# Altium schematic symbol library Trenz.SchLib: 1 symbol
Pins are listed as number, name and electrical type; pins without a type are passive.

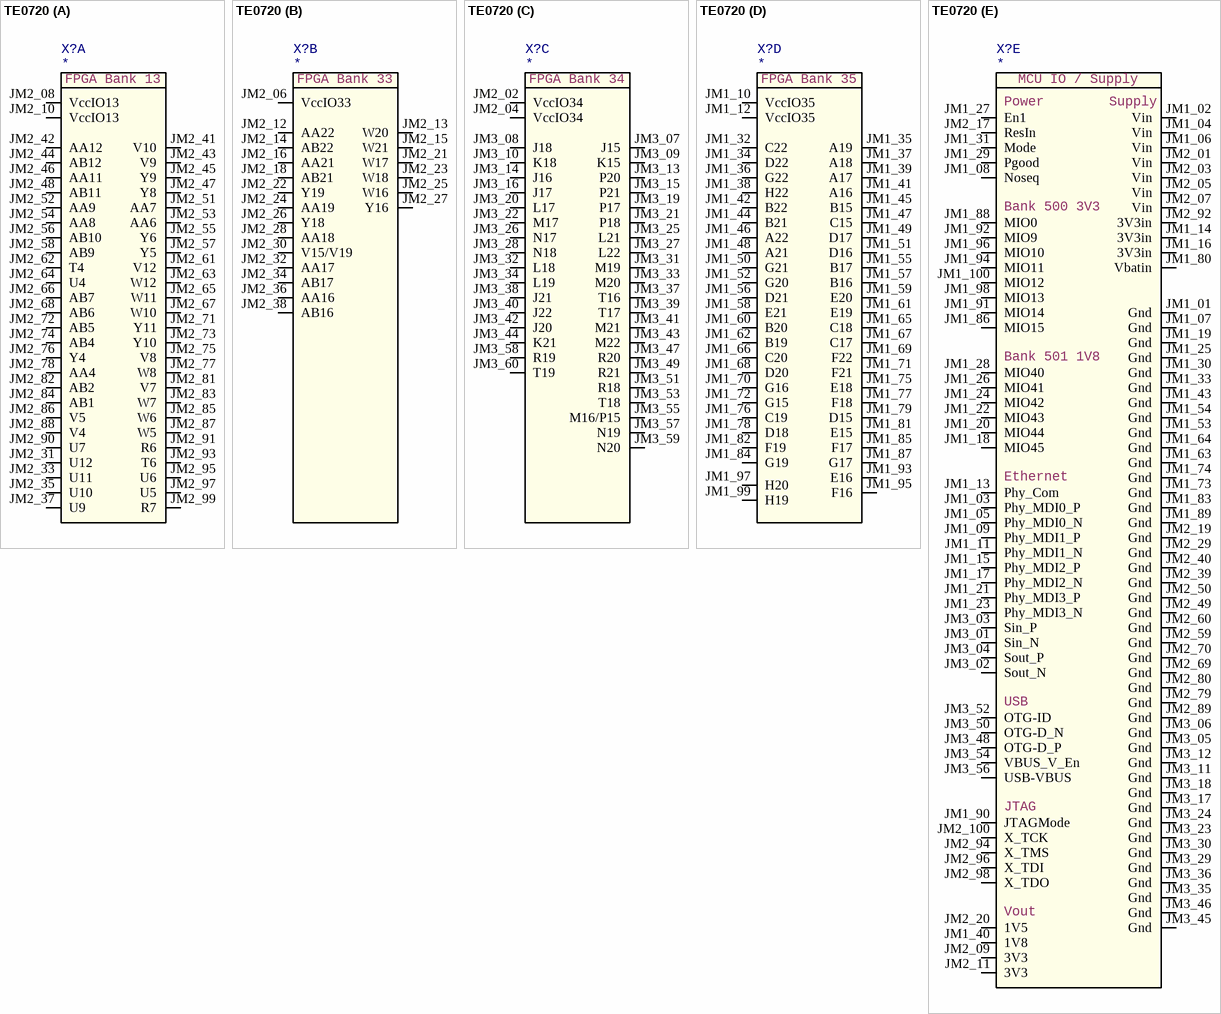
[diagram p0: symbol TE0720]

## TE0720
designator X?
Zynq 7000 SoM
part A pins: JM2_08 VccIO13, JM2_10 VccIO13, JM2_31 U12, JM2_33 U11, JM2_35 U10, JM2_37 U9, JM2_41 V10, JM2_42 AA12, JM2_43 V9, JM2_44 AB12, JM2_45 Y9, JM2_46 AA11, JM2_47 Y8, JM2_48 AB11, JM2_51 AA7, JM2_52 AA9, JM2_53 AA6, JM2_54 AA8, JM2_55 Y6, JM2_56 AB10, JM2_57 Y5, JM2_58 AB9, JM2_61 V12, JM2_62 T4, JM2_63 W12, JM2_64 U4, JM2_65 W11, JM2_66 AB7, JM2_67 W10, JM2_68 AB6, JM2_71 Y11, JM2_72 AB5, JM2_73 Y10, JM2_74 AB4, JM2_75 V8, JM2_76 Y4, JM2_77 W8, JM2_78 AA4, JM2_81 V7, JM2_82 AB2, JM2_83 W7, JM2_84 AB1, JM2_85 W6, JM2_86 V5, JM2_87 W5, JM2_88 V4, JM2_90 U7, JM2_91 R6, JM2_93 T6, JM2_95 U6, JM2_97 U5, JM2_99 R7
part B pins: JM2_06 VccIO33, JM2_12 AA22, JM2_13 W20, JM2_14 AB22, JM2_15 W21, JM2_16 AA21, JM2_18 AB21, JM2_21 W17, JM2_22 Y19, JM2_23 W18, JM2_24 AA19, JM2_25 W16, JM2_26 Y18, JM2_27 Y16, JM2_28 AA18, JM2_30 V15/V19, JM2_32 AA17, JM2_34 AB17, JM2_36 AA16, JM2_38 AB16
part C pins: JM2_02 VccIO34, JM2_04 VccIO34, JM3_07 J15, JM3_08 J18, JM3_09 K15, JM3_10 K18, JM3_13 P20, JM3_14 J16, JM3_15 P21, JM3_16 J17, JM3_19 P17, JM3_20 L17, JM3_21 P18, JM3_22 M17, JM3_25 L21, JM3_26 N17, JM3_27 L22, JM3_28 N18, JM3_31 M19, JM3_32 L18, JM3_33 M20, JM3_34 L19, JM3_37 T16, JM3_38 J21, JM3_39 T17, JM3_40 J22, JM3_41 M21, JM3_42 J20, JM3_43 M22, JM3_44 K21, JM3_47 R20, JM3_49 R21, JM3_51 R18, JM3_53 T18, JM3_55 M16/P15, JM3_57 N19, JM3_58 R19, JM3_59 N20, JM3_60 T19
part D pins: JM1_10 VccIO35, JM1_12 VccIO35, JM1_32 C22, JM1_34 D22, JM1_35 A19, JM1_36 G22, JM1_37 A18, JM1_38 H22, JM1_39 A17, JM1_41 A16, JM1_42 B22, JM1_44 B21, JM1_45 B15, JM1_46 A22, JM1_47 C15, JM1_48 A21, JM1_49 D17, JM1_50 G21, JM1_51 D16, JM1_52 G20, JM1_55 B17 (power), JM1_56 D21, JM1_57 B16, JM1_58 E21, JM1_59 E20, JM1_60 B20, JM1_61 E19, JM1_62 B19, JM1_65 C18, JM1_66 C20, JM1_67 C17, JM1_68 D20, JM1_69 F22, JM1_70 G16, JM1_71 F21, JM1_72 G15, JM1_75 E18, JM1_76 C19, JM1_77 F18, JM1_78 D18, JM1_79 D15, JM1_81 E15, JM1_82 F19, JM1_84 G19, JM1_85 F17, JM1_87 G17, JM1_93 E16, JM1_95 F16, JM1_97 H20, JM1_99 H19
part E pins: JM1_01 Gnd (power), JM1_02 Vin (power), JM1_03 Phy_MDI0_P, JM1_04 Vin (power), JM1_05 Phy_MDI0_N, JM1_06 Vin (power), JM1_07 Gnd (power), JM1_08 Noseq, JM1_09 Phy_MDI1_P, JM1_11 Phy_MDI1_N, JM1_13 Phy_Com, JM1_14 3V3in (power), JM1_15 Phy_MDI2_P, JM1_16 3V3in (power), JM1_17 Phy_MDI2_N, JM1_18 MIO45, JM1_19 Gnd (power), JM1_20 MIO44, JM1_21 Phy_MDI3_P, JM1_22 MIO43, JM1_23 Phy_MDI3_N, JM1_24 MIO42, JM1_25 Gnd (power), JM1_26 MIO41, JM1_27 En1, JM1_28 MIO40, JM1_29 Pgood, JM1_30 Gnd (power), JM1_31 Mode, JM1_33 Gnd (power), JM1_40 1V8 (power), JM1_43 Gnd (power), JM1_53 Gnd (power), JM1_54 Gnd (power), JM1_63 Gnd (power), JM1_64 Gnd (power), JM1_73 Gnd (power), JM1_74 Gnd (power), JM1_80 Vbatin (power), JM1_83 Gnd (power), JM1_86 MIO15, JM1_88 MIO0, JM1_89 Gnd (power), JM1_90 JTAGMode, JM1_91 MIO14, JM1_92 MIO9, JM1_94 MIO11, JM1_96 MIO10, JM1_98 MIO13, JM1_100 MIO12, JM2_01 Vin (power), JM2_03 Vin (power), JM2_05 Vin (power), JM2_07 Vin (power), JM2_09 3V3 (power), JM2_11 3V3 (power), JM2_17 ResIn, JM2_19 Gnd (power), JM2_20 1V5 (power), JM2_29 Gnd (power), JM2_39 Gnd (power), JM2_40 Gnd (power), JM2_49 Gnd (power), JM2_50 Gnd (power), JM2_59 Gnd (power), JM2_60 Gnd (power), JM2_69 Gnd (power), JM2_70 Gnd (power), JM2_79 Gnd (power), JM2_80 Gnd (power), JM2_89 Gnd (power), JM2_92 3V3in (power), JM2_94 X_TMS, JM2_96 X_TDI, JM2_98 X_TDO, JM2_100 X_TCK, JM3_01 Sin_N, JM3_02 Sout_N, JM3_03 Sin_P, JM3_04 Sout_P, JM3_05 Gnd (power), JM3_06 Gnd (power), JM3_11 Gnd (power), JM3_12 Gnd (power), JM3_17 Gnd (power), JM3_18 Gnd (power), JM3_23 Gnd (power), JM3_24 Gnd (power), JM3_29 Gnd (power), JM3_30 Gnd (power), JM3_35 Gnd (power), JM3_36 Gnd (power), JM3_45 Gnd (power), JM3_46 Gnd (power), JM3_48 OTG-D_P, JM3_50 OTG-D_N, JM3_52 OTG-ID, JM3_54 VBUS_V_En, JM3_56 USB-VBUS
part A text: FPGA Bank 13
part B text: FPGA Bank 33
part C text: FPGA Bank 34
part D text: FPGA Bank 35
part E text: MCU IO / Supply; Power; Supply; Bank 500 3V3; Bank 501 1V8; Ethernet; USB; JTAG; Vout